# Altium footprint library mypcblib.PcbLib: 90 footprints (part 1 of 6)
Each footprint in its own frame and in the unit in brackets; x right, y up, seen from the top. Pads: shape width x height; smd on the part's side, far side on the other; paste and mask are expansions set on the pad; w line width, h text height; cw(c..) or ccw(c..) is an arc to the next point about the centre after c.
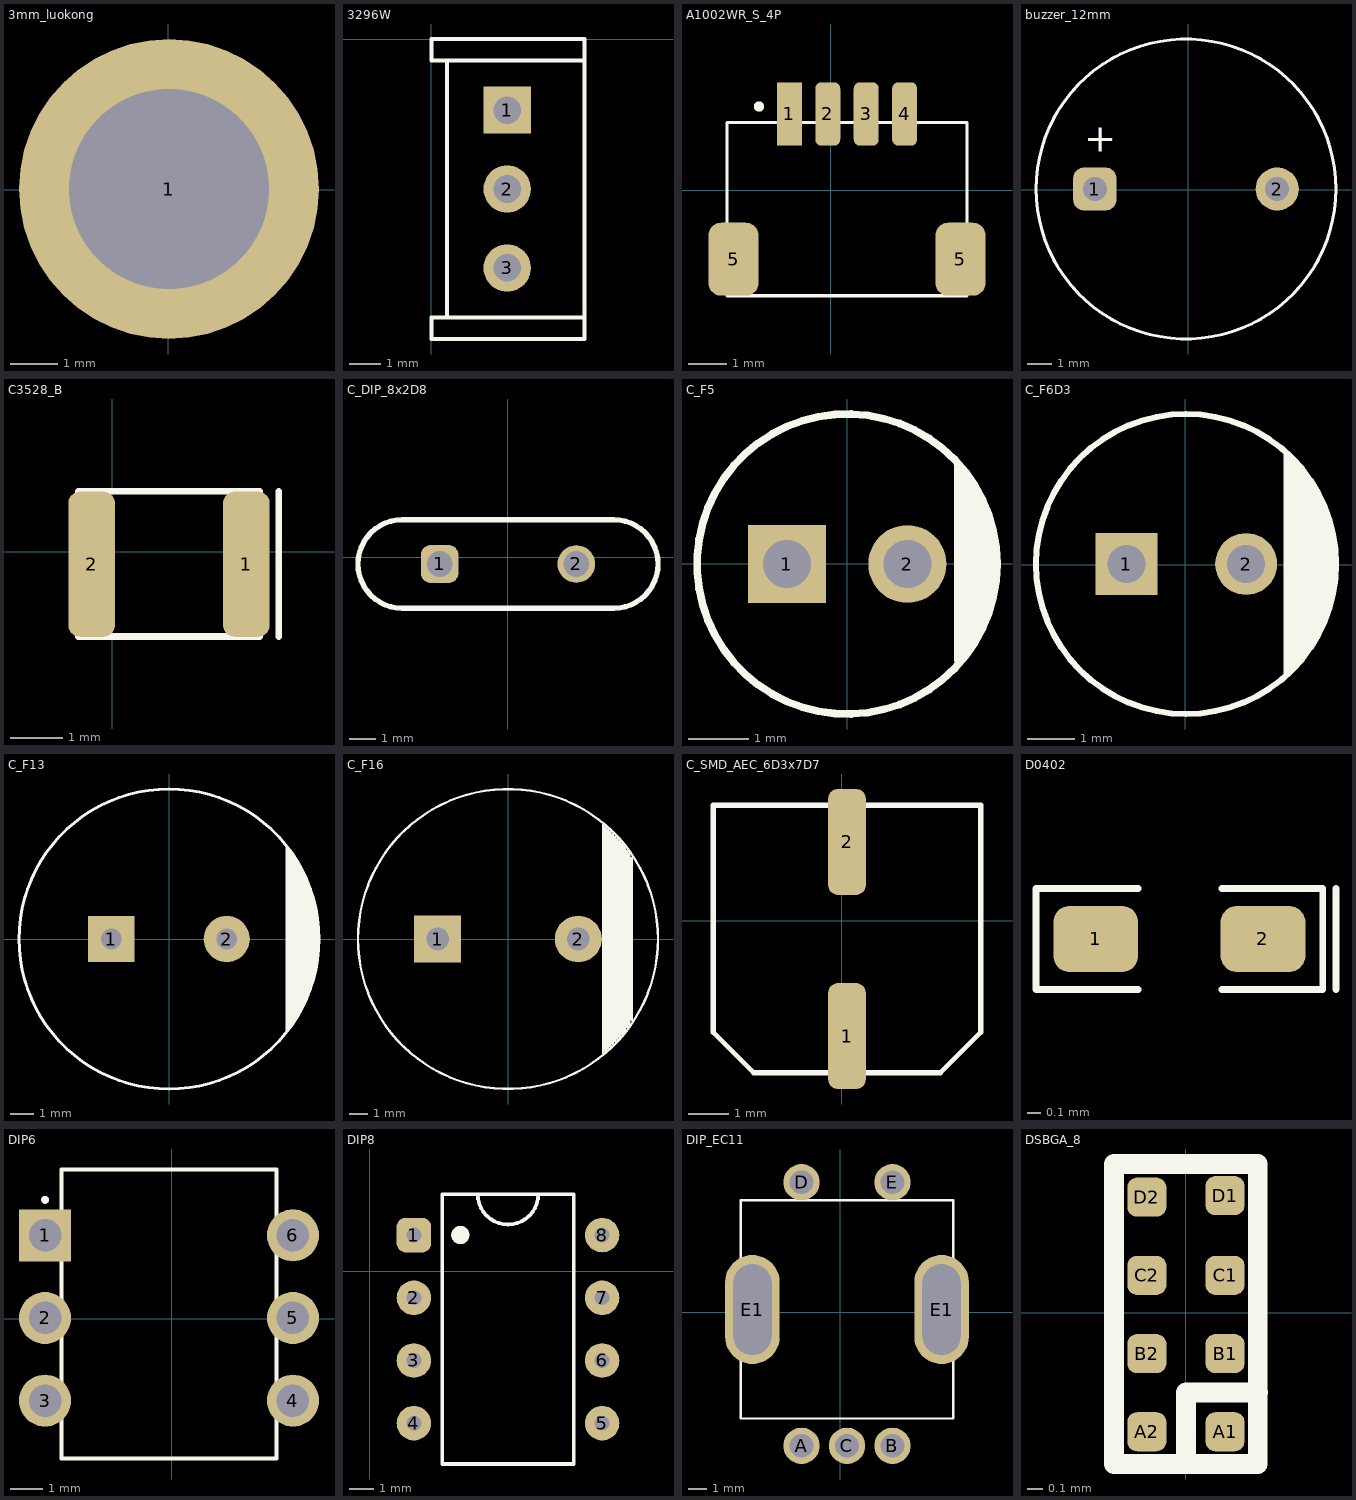
[diagram p0: the footprints below, top view; thin cyan lines are the x and y axes]

## 3mm_luokong [mm]
pads (1):
  round 6.3 hole 4.2: 1(0.011,0.016)

## 3296W [mm]
pads (3):
  rect 1.5x1.5 hole 0.872: 1(2.4,-2.25)
  round 1.5 hole 0.872: 2(2.4,-4.75) 3(2.4,-7.25)
Top Overlay:
  lines w0.127: 4.85,-8.825 0.5,-8.825 0.5,-0.675 4.85,-0.675 ; 4.85,-8.825 4.85,-0.675 ; 4.85,-8.825 0,-8.825 0,-9.5 4.85,-9.5 4.85,-8.825 ; 4.85,-0.675 0,-0.675 0,0 4.85,0 4.85,-0.675

## A1002WR_S_4P [mm]
pads (6):
  rect 0.65x1.65 smd: 1(-1.08,1.985)
  rrect50% 0.65x1.65 smd: 2(-0.08,1.985) 3(0.92,1.985) 4(1.92,1.985)
  rrect50% 1.3x1.9 smd: 5(-2.53,-1.79) 5(3.37,-1.79)
Top Overlay:
  circle w0.127: c-1.87,2.18 r0.071
  lines w0.08: -2.705,-2.74 3.545,-2.74 3.545,1.76 -2.705,1.76 -2.705,-2.74

## buzzer_12mm [mm]
pads (2):
  rrect50% 1.8x1.8 hole 1: 1(-3.894,0.033)
  round 1.8 hole 1: 2(3.706,0.033)
Top Overlay:
  circle w0.127: c-0.094,0.033 r6.25
  text "+" at -4.34,1.183 h2

## C3528_B [mm]
pads (2):
  rrect50% 0.9x2.8 smd: 1(2.58,-0.24) 2(-0.4,-0.24)
Top Overlay:
  lines w0.127: 3.201,-1.635 3.201,1.165 ; -0.659,-1.635 2.841,-1.635 2.841,1.165 -0.659,1.165 -0.659,-1.635
3D body "C3528.STEP": height 2.03, standoff 0, extent -0.76,-1.705 2.94,1.225

## C_DIP_8x2D8 [mm]
pads (2):
  rrect50% 1.4x1.4 hole 0.95: 1(-2.527,-0.249)
  round 1.4 hole 0.95: 2(2.553,-0.249)
Top Overlay:
  lines w0.2: -3.912,-1.899 cw(c-3.912,-0.249) -3.912,1.401 3.938,1.401 cw(c3.938,-0.249) 3.938,-1.899 -3.912,-1.899

## C_F5 [mm] "47uF_25V"
pads (2):
  rect 1.3x1.3 hole 0.8: 1(-1.002,-0.002)
  round 1.3 hole 0.8: 2(1.004,-0.002)
Top Overlay:
  circle w0.127: c-0.002,-0.002 r2.5
  lines w0.152: 2.108,-1.27 2.108,1.295 ; 2.235,-1.067 2.235,1.067 ; 2.235,-0.787 2.362,-0.66 2.362,0.686 2.286,0.762 ; 2.337,0.254 2.388,0.203 2.388,-0.254 ; 1.854,-1.6 1.981,-1.473 1.981,1.499 1.854,1.626 1.854,-1.6

## C_F6D3 [mm] "2D2uF_250V"
pads (2):
  rect 1.3x1.3 hole 0.8: 1(-1.237,0.013)
  round 1.3 hole 0.8: 2(1.276,0.013)
Top Overlay:
  circle w0.127: c0.013,0.013 r3.15
  lines w0.152: 2.134,-2.261 2.134,2.286 ; 2.235,-2.108 2.235,2.134 ; 2.362,-2.007 2.362,2.032 ; 2.489,-1.905 2.489,1.905 ; 2.616,-1.727 2.616,1.702 ; 2.743,-1.499 2.743,1.499 ; 2.87,-1.27 2.87,1.245 ; 2.997,-0.914 2.997,0.965 ; 3.124,-0.381 3.124,0.381

## C_F13 [mm] "1000uF_50V"
pads (2):
  rect 2x2 hole 0.9: 1(-2.515,0.01)
  round 2 hole 0.9: 2(2.485,0.01)
Top Overlay:
  circle w0.127: c-0.015,0.01 r6.5
  lines w0.152: 5.105,3.937 5.105,-3.912 5.207,-3.81 5.207,3.759 5.334,3.632 5.334,-3.632 ; 5.664,-3.099 5.664,3.099 ; 5.791,-2.845 5.791,2.845 ; 5.918,-2.565 5.918,2.591 ; 6.02,-2.235 6.02,2.311 ; 6.121,-2.007 6.121,1.981 ; 6.248,-1.651 6.248,1.651 ; 6.375,-1.118 6.375,1.118 ; 5.436,-3.404 5.537,-3.302 5.537,3.327 5.436,3.429 5.436,-3.404

## C_F16 [mm]
pads (2):
  rect 2.5x2.5 hole 1.2: 1(-3.75,0)
  round 2.5 hole 1.2: 2(3.75,0)
Top Overlay:
  circle w0.127: c0,0 r8
  lines w0.127: 5.08,-6.096 5.08,5.461 5.08,6.096 ; 5.207,-5.969 5.207,5.969 ; 5.334,-5.842 5.334,5.842 ; 5.461,-5.715 5.461,5.715 ; 5.588,-5.588 5.588,5.588 ; 5.715,-5.461 5.715,5.461 ; 5.842,-5.334 5.842,5.334 ; 5.969,-5.207 5.969,5.207 ; 6.096,-5.08 6.096,5.08 ; 6.223,-4.953 6.223,4.953 ; 6.35,-4.699 6.35,4.699 ; 6.477,-4.572 6.477,4.572 ; 6.604,-4.318 6.604,4.318

## C_SMD_AEC_6D3x7D7 [mm]
pads (2):
  rrect50% 0.927x2.613 smd: 1(0.131,-2.848) 2(0.131,1.939)
Top Overlay:
  lines w0.127: -3.169,-2.755 -2.169,-3.755 2.431,-3.755 3.431,-2.755 3.431,2.845 -3.169,2.845 -3.169,-2.755

## D0402 [mm]
pads (2):
  rrect50% 0.64x0.5 smd: 1(-2.61,-5.38) 2(-1.35,-5.38)
Top Overlay:
  lines w0.05: -2.291,-5.76 -3.06,-5.76 -3.06,-5 -2.291,-5 ; -1.661,-5.76 -0.9,-5.76 -0.9,-5 -1.661,-5 ; -0.8,-5.76 -0.8,-5
3D body "User Library-CR1005-0402.STEP": height 0.35, standoff 0, extent -2.48,-5.63 -1.48,-5.13

## DIP6 [mm]
pads (6):
  rect 1.6x1.6 hole 1: 1(-3.901,2.568)
  round 1.6 hole 1: 2(-3.901,0.028) 3(-3.901,-2.512) 4(3.719,-2.512) 5(3.719,0.028) 6(3.719,2.568)
Top Overlay:
  circle w0.127: c-3.9,3.66 r0.058
  lines w0.127: -3.391,-4.295 -3.391,4.595 3.209,4.595 3.209,-4.295 -3.391,-4.295
3D body "CircuitWorks-DIP6.STEP": height 4.31, standoff -3.28, extent -4.1,-4.02 3.9,4.06

## DIP8 [mm]
pads (8):
  rrect50% 1.4x1.4 hole 0.6: 1(1.778,1.473)
  round 1.4 hole 0.6: 2(1.778,-1.067) 3(1.778,-3.607) 4(1.778,-6.147) 5(9.398,-6.147) 6(9.398,-3.607) 7(9.398,-1.067) 8(9.398,1.473)
Top Overlay:
  circle w0.381: c3.658,1.473 r0.18
  lines w0.152: 4.362,3.124 ccw(c5.588,3.124) 6.814,3.124 ; 2.921,-7.798 8.255,-7.798 8.255,3.124 2.921,3.124 2.921,-7.798

## DIP_EC11 [mm]
pads (7):
  round 2 hole 1.3: A(-2.121,-7.345) B(2.879,-7.345) C(0.379,-7.345) D(-2.121,7.155) E(2.879,7.155)
  oval 3x6 hole 2.1 slot 5 at 90 deg: E1(-4.82,0.15) E1(5.58,0.15)
Top Overlay:
  lines w0.127: -5.471,-5.845 6.229,-5.845 6.229,6.155 -5.471,6.155 -5.471,-5.845
3D body "User Library-EC11B15244.STP": height 31.6, standoff -3.47, extent -6.177,-7.515 6.917,7.61

## DSBGA_8 [mm]
pads (8):
  rrect50% 0.25x0.25 smd: A1(0.25,-0.76) A2(-0.25,-0.76) B1(0.25,-0.26) B2(-0.25,-0.26) C1(0.25,0.24) C2(-0.25,0.24) D1(0.25,0.75) D2(-0.25,0.74)
Top Overlay:
  lines w0.127: 0,-0.966 0,-0.51 0.46,-0.51 ; -0.459,-0.966 0.459,-0.966 0.459,0.952 -0.459,0.952 -0.459,-0.966